# Altium schematic symbol library ERA-2VEB1002X.SCHLIB: 1 symbol
Pins are listed as number, name and electrical type; pins without a type are passive.

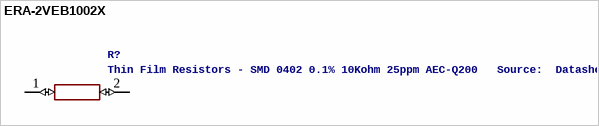
[diagram p0: symbol ERA-2VEB1002X]

## ERA-2VEB1002X
designator R?, comment Thin Film Resistors - SMD 0402 0.1% 10Kohm 25ppm AEC-Q200   Source:  Datasheet
Manufacturer_Name: Panasonic; GateName_1: G$1; SymbolName_1: ERA-2VEB1002X; LibraryName: ERA-2VEB1002X; DeviceSetName: ERA-2VEB1002X; Mouser_Part_Number: 667-ERA-2VEB1002X; Mouser_Price-Stock: https://www.mouser.co.uk/ProductDetail/Panasonic/ERA-2VEB1002X?qs=OlC7AqGiEDkeCq2k6HXliw%3D%3D; Manufacturer_Part_Number: ERA-2VEB1002X; Description: Thin Film Resistors - SMD 0402 0.1% 10Kohm 25ppm AEC-Q200; Height: 0.4mm
footprint RESC1005X40N
pins: 1 (io), 2 (io)